# EAGLE library part BC_HOUSING (library miniPCB_BOARDS)
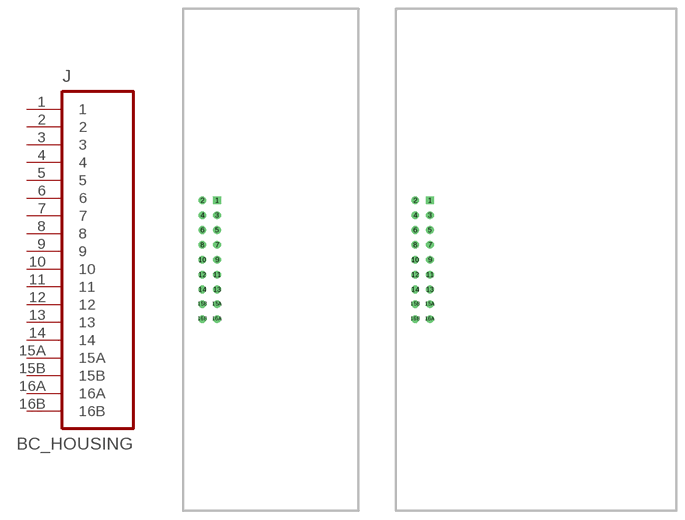
[diagram p0: symbol with the pads of BC_HOUSING_35MM; footprints BC_HOUSING_35MM, BC_HOUSING_53MM]

Designator prefix J

## BC_HOUSING_35.6MM  [BC_HOUSING_35MM]
1  1
2  2
3  3
4  4
5  5
6  6
7  7
8  8
9  9
10  10
11  11
12  12
13  13
14  14
15A  15A
15B  15B
16A  16A
16B  16B

## BC_HOUSING_53.6MM  [BC_HOUSING_53MM]
Pads as for BC_HOUSING_35MM

## BC_HOUSING_71.6MM  [BC_HOUSING_71MM]
Pads as for BC_HOUSING_35MM

## BC_HOUSING_107.6MM  [BC_HOUSING_107MM]
Pads as for BC_HOUSING_35MM

## BC_HOUSING_161.6MM  [BC_HOUSING_161MM]
Pads as for BC_HOUSING_35MM

## Footprint BC_HOUSING_35MM (pad centres in mm)
drill 0.8 square: 1 5.82,10.16
drill 0.8: 2 3.28,10.16; 3 5.82,7.62; 4 3.28,7.62; 5 5.82,5.08; 6 3.28,5.08; 7 5.82,2.54; 8 3.28,2.54; 9 5.82,0; 10 3.28,0; 11 5.82,-2.54; 12 3.28,-2.54; 13 5.82,-5.08; 14 3.28,-5.08; 15A 5.82,-7.62; 15B 3.28,-7.62; 16A 5.82,-10.16; 16B 3.28,-10.16

## Footprint BC_HOUSING_53MM (pad centres in mm)
drill 0.8 square: 1 5.82,10.16
drill 0.8: 2 3.28,10.16; 3 5.82,7.62; 4 3.28,7.62; 5 5.82,5.08; 6 3.28,5.08; 7 5.82,2.54; 8 3.28,2.54; 9 5.82,0; 10 3.28,0; 11 5.82,-2.54; 12 3.28,-2.54; 13 5.82,-5.08; 14 3.28,-5.08; 15A 5.82,-7.62; 15B 3.28,-7.62; 16A 5.82,-10.16; 16B 3.28,-10.16

## Footprint BC_HOUSING_71MM (pad centres in mm)
drill 0.8 square: 1 5.82,10.16
drill 0.8: 2 3.28,10.16; 3 5.82,7.62; 4 3.28,7.62; 5 5.82,5.08; 6 3.28,5.08; 7 5.82,2.54; 8 3.28,2.54; 9 5.82,0; 10 3.28,0; 11 5.82,-2.54; 12 3.28,-2.54; 13 5.82,-5.08; 14 3.28,-5.08; 15A 5.82,-7.62; 15B 3.28,-7.62; 16A 5.82,-10.16; 16B 3.28,-10.16

## Footprint BC_HOUSING_107MM (pad centres in mm)
drill 0.8 square: 1 5.82,10.16
drill 0.8: 2 3.28,10.16; 3 5.82,7.62; 4 3.28,7.62; 5 5.82,5.08; 6 3.28,5.08; 7 5.82,2.54; 8 3.28,2.54; 9 5.82,0; 10 3.28,0; 11 5.82,-2.54; 12 3.28,-2.54; 13 5.82,-5.08; 14 3.28,-5.08; 15A 5.82,-7.62; 15B 3.28,-7.62; 16A 5.82,-10.16; 16B 3.28,-10.16

## Footprint BC_HOUSING_161MM (pad centres in mm)
drill 0.8 square: 1 5.82,10.16
drill 0.8: 2 3.28,10.16; 3 5.82,7.62; 4 3.28,7.62; 5 5.82,5.08; 6 3.28,5.08; 7 5.82,2.54; 8 3.28,2.54; 9 5.82,0; 10 3.28,0; 11 5.82,-2.54; 12 3.28,-2.54; 13 5.82,-5.08; 14 3.28,-5.08; 15A 5.82,-7.62; 15B 3.28,-7.62; 16A 5.82,-10.16; 16B 3.28,-10.16